# Altium schematic symbol library SG-8018CE_8.1920M-TJHPA0.SchLib: 1 symbol
Pins are listed as number, name and electrical type; pins without a type are passive.

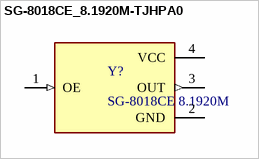
[diagram p0: symbol SG-8018CE_8.1920M-TJHPA0]

## SG-8018CE_8.1920M-TJHPA0
designator Y?, comment SG-8018CE 8.1920M
8.192 MHz XO (Standard) CMOS Oscillator 1.62V ~ 3.63V Enable/Disable 4-SMD, No Lead; MPN: SG-8018CE 8.1920M-TJHPA0; MF: EPSON; LCSC Part Number: C390481; Value: SG-8018CE 8.1920M
footprint OSCCC320X250X120N
pins: 1 OE (in), 2 GND (power), 3 OUT (out), 4 VCC (power)